# EAGLE library part MAX6126_SO8 (library max6126)
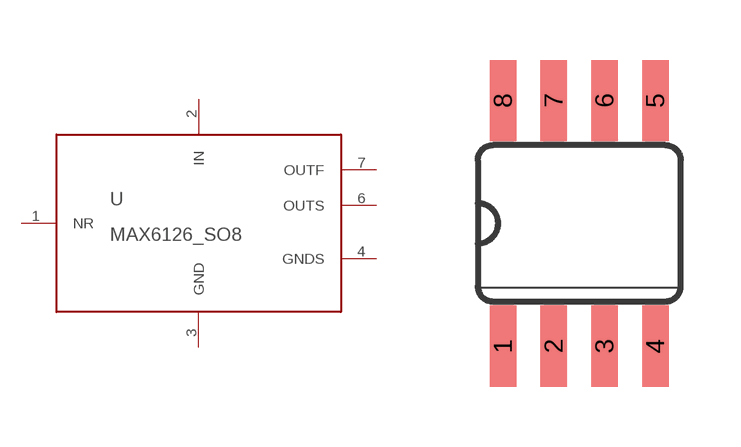
[diagram p0: symbol with the pads of SO08; footprint SO08]

Designator prefix -

## MAX6126_SO8  [SO08]
1  NR
2  IN
3  GND
4  GNDS
6  OUTS
7  OUTF

## Footprint SO08 (pad centres in mm)
Small Outline Package SOIC 150 mil
smd 0.66 x 2.032: 1 -1.905,-3.073; 2 -0.635,-3.073; 3 0.635,-3.073; 4 1.905,-3.073; 5 1.905,3.073; 6 0.635,3.073; 7 -0.635,3.073; 8 -1.905,3.073